# Altium footprint library BGA (1mm Pitch, Square2).PcbLib: 35 footprints (part 1 of 6)
Each footprint in its own frame and in the unit in brackets; x right, y up, seen from the top. Pads: shape width x height; smd on the part's side, far side on the other; paste and mask are expansions set on the pad; w line width, h text height; cw(c..) or ccw(c..) is an arc to the next point about the centre after c.
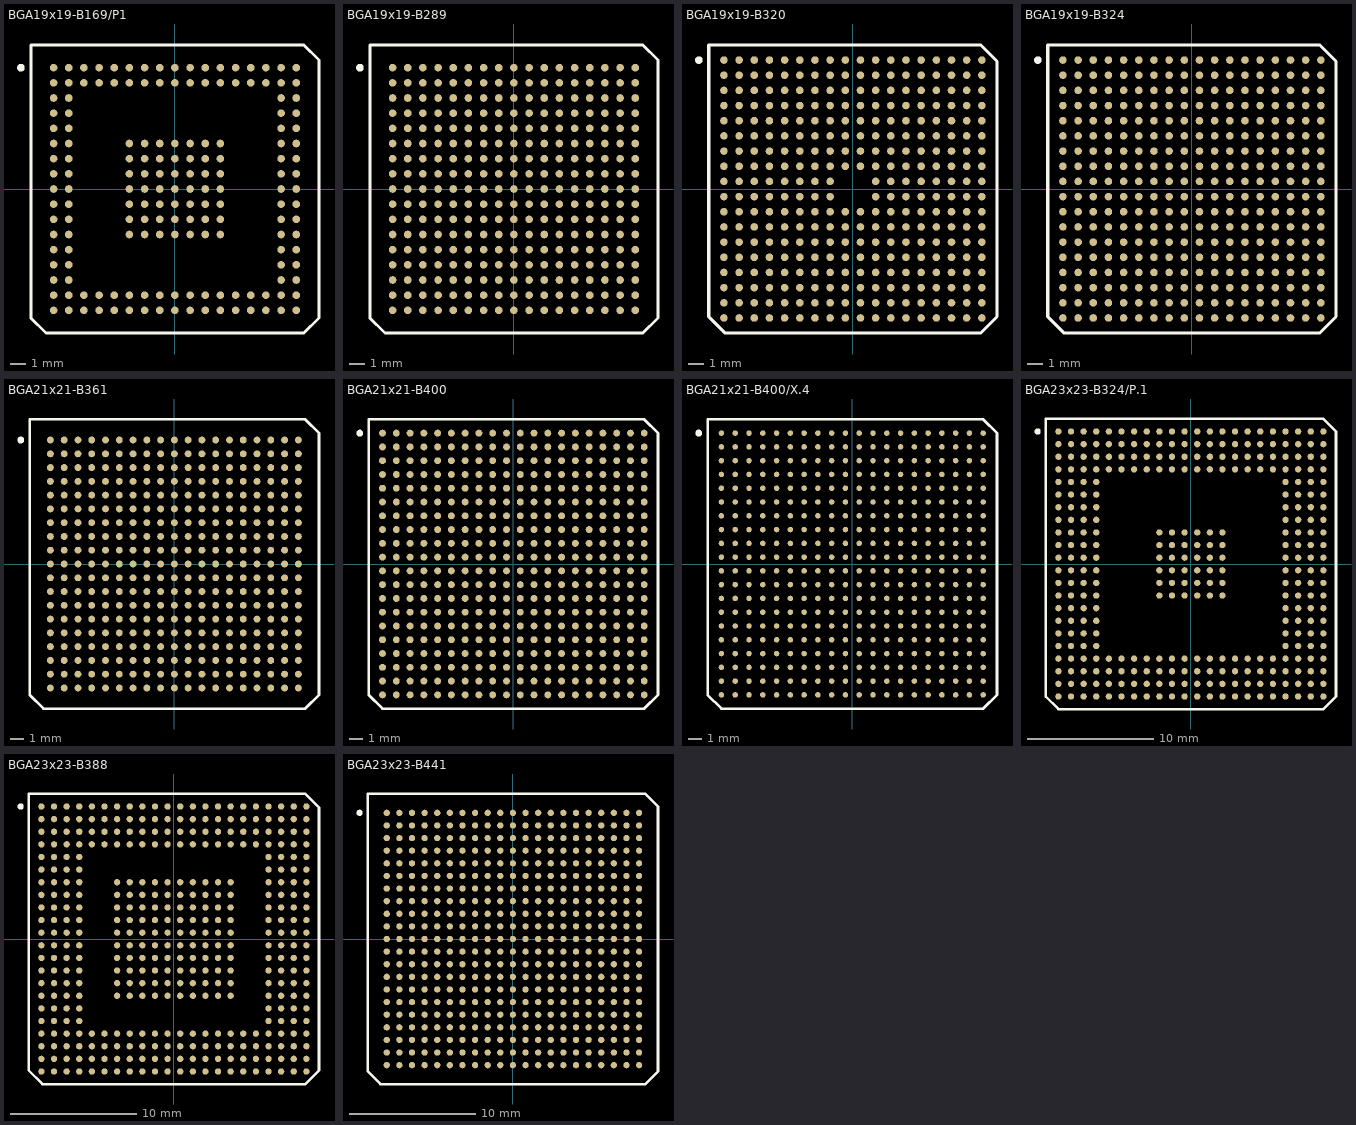
[diagram p0: the footprints below, top view; thin cyan lines are the x and y axes]

## BGA19x19-B169/P1 [mm] "BGA, Mini Plastic; 169 Balls; Body 19 x 19 mm; Pitch 1 mm"
height 2.5
pads (169):
  round 0.5 smd: A1(-8,8) A2(-7,8) A3(-6,8) A4(-5,8) A5(-4,8) A6(-3,8) A7(-2,8) A8(-1,8) A9(0,8) A10(1,8) A11(2,8) A12(3,8) A13(4,8) A14(5,8) A15(6,8) A16(7,8) A17(8,8) B1(-8,7) B2(-7,7) B3(-6,7) B4(-5,7) B5(-4,7) B6(-3,7) B7(-2,7) B8(-1,7) B9(0,7) B10(1,7) B11(2,7) B12(3,7) B13(4,7) B14(5,7) B15(6,7) B16(7,7) B17(8,7) C1(-8,6) C2(-7,6) C16(7,6) C17(8,6) D1(-8,5) D2(-7,5) D16(7,5) D17(8,5) E1(-8,4) E2(-7,4) E16(7,4) E17(8,4) F1(-8,3) F2(-7,3) F6(-3,3) F7(-2,3) F8(-1,3) F9(0,3) F10(1,3) F11(2,3) F12(3,3) F16(7,3) F17(8,3) G1(-8,2) G2(-7,2) G6(-3,2) G7(-2,2) G8(-1,2) G9(0,2) G10(1,2) G11(2,2) G12(3,2) G16(7,2) G17(8,2) H1(-8,1) H2(-7,1) H6(-3,1) H7(-2,1) H8(-1,1) H9(0,1) H10(1,1) H11(2,1) H12(3,1) H16(7,1) H17(8,1) J1(-8,0) J2(-7,0) J6(-3,0) J7(-2,0) J8(-1,0) J9(0,0) J10(1,0) J11(2,0) J12(3,0) J16(7,0) J17(8,0) K1(-8,-1) K2(-7,-1) K6(-3,-1) K7(-2,-1) K8(-1,-1) K9(0,-1) K10(1,-1) K11(2,-1) K12(3,-1) K16(7,-1) K17(8,-1) L1(-8,-2) L2(-7,-2) L6(-3,-2) L7(-2,-2) L8(-1,-2) L9(0,-2) L10(1,-2) L11(2,-2) L12(3,-2) L16(7,-2) L17(8,-2) M1(-8,-3) M2(-7,-3) M6(-3,-3) M7(-2,-3) M8(-1,-3) M9(0,-3) M10(1,-3) M11(2,-3) M12(3,-3) M16(7,-3) M17(8,-3) N1(-8,-4) N2(-7,-4) N16(7,-4) N17(8,-4) P1(-8,-5) P2(-7,-5) P16(7,-5) P17(8,-5) R1(-8,-6) R2(-7,-6) R16(7,-6) R17(8,-6) T1(-8,-7) T2(-7,-7) T3(-6,-7) T4(-5,-7) T5(-4,-7) T6(-3,-7) T7(-2,-7) T8(-1,-7) T9(0,-7) T10(1,-7) T11(2,-7) T12(3,-7) T13(4,-7) T14(5,-7) T15(6,-7) T16(7,-7) T17(8,-7) U1(-8,-8) U2(-7,-8) U3(-6,-8) U4(-5,-8) U5(-4,-8) U6(-3,-8) U7(-2,-8) U8(-1,-8) U9(0,-8) U10(1,-8) U11(2,-8) U12(3,-8) U13(4,-8) U14(5,-8) U15(6,-8) U16(7,-8) U17(8,-8)
Top Overlay:
  circle w0.25: c-10.155,8 r0.125
  lines w0.2: -9.5,-8.5 -8.5,-9.5 8.5,-9.5 9.5,-8.5 9.5,8.5 8.5,9.5 -9.5,9.5 -9.5,-8.5

## BGA19x19-B289 [mm] "BGA; 289 Balls; Body 19 x 19 mm; Pitch 1 mm"
height 3.5
pads (289):
  round 0.5 smd: A1(-8,8) A2(-7,8) A3(-6,8) A4(-5,8) A5(-4,8) A6(-3,8) A7(-2,8) A8(-1,8) A9(0,8) A10(1,8) A11(2,8) A12(3,8) A13(4,8) A14(5,8) A15(6,8) A16(7,8) A17(8,8) B1(-8,7) B2(-7,7) B3(-6,7) B4(-5,7) B5(-4,7) B6(-3,7) B7(-2,7) B8(-1,7) B9(0,7) B10(1,7) B11(2,7) B12(3,7) B13(4,7) B14(5,7) B15(6,7) B16(7,7) B17(8,7) C1(-8,6) C2(-7,6) C3(-6,6) C4(-5,6) C5(-4,6) C6(-3,6) C7(-2,6) C8(-1,6) C9(0,6) C10(1,6) C11(2,6) C12(3,6) C13(4,6) C14(5,6) C15(6,6) C16(7,6) C17(8,6) D1(-8,5) D2(-7,5) D3(-6,5) D4(-5,5) D5(-4,5) D6(-3,5) D7(-2,5) D8(-1,5) D9(0,5) D10(1,5) D11(2,5) D12(3,5) D13(4,5) D14(5,5) D15(6,5) D16(7,5) D17(8,5) E1(-8,4) E2(-7,4) E3(-6,4) E4(-5,4) E5(-4,4) E6(-3,4) E7(-2,4) E8(-1,4) E9(0,4) E10(1,4) E11(2,4) E12(3,4) E13(4,4) E14(5,4) E15(6,4) E16(7,4) E17(8,4) F1(-8,3) F2(-7,3) F3(-6,3) F4(-5,3) F5(-4,3) F6(-3,3) F7(-2,3) F8(-1,3) F9(0,3) F10(1,3) F11(2,3) F12(3,3) F13(4,3) F14(5,3) F15(6,3) F16(7,3) F17(8,3) G1(-8,2) G2(-7,2) G3(-6,2) G4(-5,2) G5(-4,2) G6(-3,2) G7(-2,2) G8(-1,2) G9(0,2) G10(1,2) G11(2,2) G12(3,2) G13(4,2) G14(5,2) G15(6,2) G16(7,2) G17(8,2) H1(-8,1) H2(-7,1) H3(-6,1) H4(-5,1) H5(-4,1) H6(-3,1) H7(-2,1) H8(-1,1) H9(0,1) H10(1,1) H11(2,1) H12(3,1) H13(4,1) H14(5,1) H15(6,1) H16(7,1) H17(8,1) J1(-8,0) J2(-7,0) J3(-6,0) J4(-5,0) J5(-4,0) J6(-3,0) J7(-2,0) J8(-1,0) J9(0,0) J10(1,0) J11(2,0) J12(3,0) J13(4,0) J14(5,0) J15(6,0) J16(7,0) J17(8,0) K1(-8,-1) K2(-7,-1) K3(-6,-1) K4(-5,-1) K5(-4,-1) K6(-3,-1) K7(-2,-1) K8(-1,-1) K9(0,-1) K10(1,-1) K11(2,-1) K12(3,-1) K13(4,-1) K14(5,-1) K15(6,-1) K16(7,-1) K17(8,-1) L1(-8,-2) L2(-7,-2) L3(-6,-2) L4(-5,-2) L5(-4,-2) L6(-3,-2) L7(-2,-2) L8(-1,-2) L9(0,-2) L10(1,-2) L11(2,-2) L12(3,-2) L13(4,-2) L14(5,-2) L15(6,-2) L16(7,-2) L17(8,-2) M1(-8,-3) M2(-7,-3) M3(-6,-3) M4(-5,-3) M5(-4,-3) M6(-3,-3) M7(-2,-3) M8(-1,-3) M9(0,-3) M10(1,-3) M11(2,-3) M12(3,-3) M13(4,-3) M14(5,-3) M15(6,-3) M16(7,-3) M17(8,-3) N1(-8,-4) N2(-7,-4) N3(-6,-4) N4(-5,-4) N5(-4,-4) N6(-3,-4) N7(-2,-4) N8(-1,-4) N9(0,-4) N10(1,-4) N11(2,-4) N12(3,-4) N13(4,-4) N14(5,-4) N15(6,-4) N16(7,-4) N17(8,-4) P1(-8,-5) P2(-7,-5) P3(-6,-5) P4(-5,-5) P5(-4,-5) P6(-3,-5) P7(-2,-5) P8(-1,-5) P9(0,-5) P10(1,-5) P11(2,-5) P12(3,-5) P13(4,-5) P14(5,-5) P15(6,-5) P16(7,-5) P17(8,-5) R1(-8,-6) R2(-7,-6) R3(-6,-6) R4(-5,-6) R5(-4,-6) R6(-3,-6) R7(-2,-6) R8(-1,-6) R9(0,-6) R10(1,-6) R11(2,-6) R12(3,-6) R13(4,-6) R14(5,-6) R15(6,-6) R16(7,-6) R17(8,-6) T1(-8,-7) T2(-7,-7) T3(-6,-7) T4(-5,-7) T5(-4,-7) T6(-3,-7) T7(-2,-7) T8(-1,-7) T9(0,-7) T10(1,-7) T11(2,-7) T12(3,-7) T13(4,-7) T14(5,-7) T15(6,-7) T16(7,-7) T17(8,-7) U1(-8,-8) U2(-7,-8) U3(-6,-8) U4(-5,-8) U5(-4,-8) U6(-3,-8) U7(-2,-8) U8(-1,-8) U9(0,-8) U10(1,-8) U11(2,-8) U12(3,-8) U13(4,-8) U14(5,-8) U15(6,-8) U16(7,-8) U17(8,-8)
Top Overlay:
  circle w0.25: c-10.155,8 r0.125
  lines w0.2: -9.5,-8.5 -9.5,9.5 8.5,9.5 9.5,8.5 9.5,-8.5 8.5,-9.5 -8.5,-9.5 -9.5,-8.5

## BGA19x19-B320 [mm] "320-Ball Fine-Pitch Ball Grid Array (FG320)"
height 2
pads (320):
  round 0.5 smd: A1(-8.5,8.5) A2(-7.5,8.5) A3(-6.5,8.5) A4(-5.5,8.5) A5(-4.5,8.5) A6(-3.5,8.5) A7(-2.5,8.5) A8(-1.5,8.5) A9(-0.5,8.5) A10(0.5,8.5) A11(1.5,8.5) A12(2.5,8.5) A13(3.5,8.5) A14(4.5,8.5) A15(5.5,8.5) A16(6.5,8.5) A17(7.5,8.5) A18(8.5,8.5) B1(-8.5,7.5) B2(-7.5,7.5) B3(-6.5,7.5) B4(-5.5,7.5) B5(-4.5,7.5) B6(-3.5,7.5) B7(-2.5,7.5) B8(-1.5,7.5) B9(-0.5,7.5) B10(0.5,7.5) B11(1.5,7.5) B12(2.5,7.5) B13(3.5,7.5) B14(4.5,7.5) B15(5.5,7.5) B16(6.5,7.5) B17(7.5,7.5) B18(8.5,7.5) C1(-8.5,6.5) C2(-7.5,6.5) C3(-6.5,6.5) C4(-5.5,6.5) C5(-4.5,6.5) C6(-3.5,6.5) C7(-2.5,6.5) C8(-1.5,6.5) C9(-0.5,6.5) C10(0.5,6.5) C11(1.5,6.5) C12(2.5,6.5) C13(3.5,6.5) C14(4.5,6.5) C15(5.5,6.5) C16(6.5,6.5) C17(7.5,6.5) C18(8.5,6.5) D1(-8.5,5.5) D2(-7.5,5.5) D3(-6.5,5.5) D4(-5.5,5.5) D5(-4.5,5.5) D6(-3.5,5.5) D7(-2.5,5.5) D8(-1.5,5.5) D9(-0.5,5.5) D10(0.5,5.5) D11(1.5,5.5) D12(2.5,5.5) D13(3.5,5.5) D14(4.5,5.5) D15(5.5,5.5) D16(6.5,5.5) D17(7.5,5.5) D18(8.5,5.5) E1(-8.5,4.5) E2(-7.5,4.5) E3(-6.5,4.5) E4(-5.5,4.5) E5(-4.5,4.5) E6(-3.5,4.5) E7(-2.5,4.5) E8(-1.5,4.5) E9(-0.5,4.5) E10(0.5,4.5) E11(1.5,4.5) E12(2.5,4.5) E13(3.5,4.5) E14(4.5,4.5) E15(5.5,4.5) E16(6.5,4.5) E17(7.5,4.5) E18(8.5,4.5) F1(-8.5,3.5) F2(-7.5,3.5) F3(-6.5,3.5) F4(-5.5,3.5) F5(-4.5,3.5) F6(-3.5,3.5) F7(-2.5,3.5) F8(-1.5,3.5) F9(-0.5,3.5) F10(0.5,3.5) F11(1.5,3.5) F12(2.5,3.5) F13(3.5,3.5) F14(4.5,3.5) F15(5.5,3.5) F16(6.5,3.5) F17(7.5,3.5) F18(8.5,3.5) G1(-8.5,2.5) G2(-7.5,2.5) G3(-6.5,2.5) G4(-5.5,2.5) G5(-4.5,2.5) G6(-3.5,2.5) G7(-2.5,2.5) G8(-1.5,2.5) G9(-0.5,2.5) G10(0.5,2.5) G11(1.5,2.5) G12(2.5,2.5) G13(3.5,2.5) G14(4.5,2.5) G15(5.5,2.5) G16(6.5,2.5) G17(7.5,2.5) G18(8.5,2.5) H1(-8.5,1.5) H2(-7.5,1.5) H3(-6.5,1.5) H4(-5.5,1.5) H5(-4.5,1.5) H6(-3.5,1.5) H7(-2.5,1.5) H8(-1.5,1.5) H9(-0.5,1.5) H10(0.5,1.5) H11(1.5,1.5) H12(2.5,1.5) H13(3.5,1.5) H14(4.5,1.5) H15(5.5,1.5) H16(6.5,1.5) H17(7.5,1.5) H18(8.5,1.5) J1(-8.5,0.5) J2(-7.5,0.5) J3(-6.5,0.5) J4(-5.5,0.5) J5(-4.5,0.5) J6(-3.5,0.5) J7(-2.5,0.5) J8(-1.5,0.5) J11(1.5,0.5) J12(2.5,0.5) J13(3.5,0.5) J14(4.5,0.5) J15(5.5,0.5) J16(6.5,0.5) J17(7.5,0.5) J18(8.5,0.5) K1(-8.5,-0.5) K2(-7.5,-0.5) K3(-6.5,-0.5) K4(-5.5,-0.5) K5(-4.5,-0.5) K6(-3.5,-0.5) K7(-2.5,-0.5) K8(-1.5,-0.5) K11(1.5,-0.5) K12(2.5,-0.5) K13(3.5,-0.5) K14(4.5,-0.5) K15(5.5,-0.5) K16(6.5,-0.5) K17(7.5,-0.5) K18(8.5,-0.5) L1(-8.5,-1.5) L2(-7.5,-1.5) L3(-6.5,-1.5) L4(-5.5,-1.5) L5(-4.5,-1.5) L6(-3.5,-1.5) L7(-2.5,-1.5) L8(-1.5,-1.5) L9(-0.5,-1.5) L10(0.5,-1.5) L11(1.5,-1.5) L12(2.5,-1.5) L13(3.5,-1.5) L14(4.5,-1.5) L15(5.5,-1.5) L16(6.5,-1.5) L17(7.5,-1.5) L18(8.5,-1.5) M1(-8.5,-2.5) M2(-7.5,-2.5) M3(-6.5,-2.5) M4(-5.5,-2.5) M5(-4.5,-2.5) M6(-3.5,-2.5) M7(-2.5,-2.5) M8(-1.5,-2.5) M9(-0.5,-2.5) M10(0.5,-2.5) M11(1.5,-2.5) M12(2.5,-2.5) M13(3.5,-2.5) M14(4.5,-2.5) M15(5.5,-2.5) M16(6.5,-2.5) M17(7.5,-2.5) M18(8.5,-2.5) N1(-8.5,-3.5) N2(-7.5,-3.5) N3(-6.5,-3.5) N4(-5.5,-3.5) N5(-4.5,-3.5) N6(-3.5,-3.5) N7(-2.5,-3.5) N8(-1.5,-3.5) N9(-0.5,-3.5) N10(0.5,-3.5) N11(1.5,-3.5) N12(2.5,-3.5) N13(3.5,-3.5) N14(4.5,-3.5) N15(5.5,-3.5) N16(6.5,-3.5) N17(7.5,-3.5) N18(8.5,-3.5) P1(-8.5,-4.5) P2(-7.5,-4.5) P3(-6.5,-4.5) P4(-5.5,-4.5) P5(-4.5,-4.5) P6(-3.5,-4.5) P7(-2.5,-4.5) P8(-1.5,-4.5) P9(-0.5,-4.5) P10(0.5,-4.5) P11(1.5,-4.5) P12(2.5,-4.5) P13(3.5,-4.5) P14(4.5,-4.5) P15(5.5,-4.5) P16(6.5,-4.5) P17(7.5,-4.5) P18(8.5,-4.5) R1(-8.5,-5.5) R2(-7.5,-5.5) R3(-6.5,-5.5) R4(-5.5,-5.5) R5(-4.5,-5.5) R6(-3.5,-5.5) R7(-2.5,-5.5) R8(-1.5,-5.5) R9(-0.5,-5.5) R10(0.5,-5.5) R11(1.5,-5.5) R12(2.5,-5.5) R13(3.5,-5.5) R14(4.5,-5.5) R15(5.5,-5.5) R16(6.5,-5.5) R17(7.5,-5.5) R18(8.5,-5.5) T1(-8.5,-6.5) T2(-7.5,-6.5) T3(-6.5,-6.5) T4(-5.5,-6.5) T5(-4.5,-6.5) T6(-3.5,-6.5) T7(-2.5,-6.5) T8(-1.5,-6.5) T9(-0.5,-6.5) T10(0.5,-6.5) T11(1.5,-6.5) T12(2.5,-6.5) T13(3.5,-6.5) T14(4.5,-6.5) T15(5.5,-6.5) T16(6.5,-6.5) T17(7.5,-6.5) T18(8.5,-6.5) U1(-8.5,-7.5) U2(-7.5,-7.5) U3(-6.5,-7.5) U4(-5.5,-7.5) U5(-4.5,-7.5) U6(-3.5,-7.5) U7(-2.5,-7.5) U8(-1.5,-7.5) U9(-0.5,-7.5) U10(0.5,-7.5) U11(1.5,-7.5) U12(2.5,-7.5) U13(3.5,-7.5) U14(4.5,-7.5) U15(5.5,-7.5) U16(6.5,-7.5) U17(7.5,-7.5) U18(8.5,-7.5) V1(-8.5,-8.5) V2(-7.5,-8.5) V3(-6.5,-8.5) V4(-5.5,-8.5) V5(-4.5,-8.5) V6(-3.5,-8.5) V7(-2.5,-8.5) V8(-1.5,-8.5) V9(-0.5,-8.5) V10(0.5,-8.5) V11(1.5,-8.5) V12(2.5,-8.5) V13(3.5,-8.5) V14(4.5,-8.5) V15(5.5,-8.5) V16(6.5,-8.5) V17(7.5,-8.5) V18(8.5,-8.5)
Top Overlay:
  circle w0.25: c-10.15,8.5 r0.125
  lines w0.2: -9.5,-8.419 -8.419,-9.5 8.419,-9.5 9.5,-8.419 9.5,8.419 8.419,9.5 -9.5,9.5 -9.5,-8.419

## BGA19x19-B324 [mm] "324-Pin Fine Pitch Plastic Ball Grid Array (FG)"
height 1.78
pads (324):
  round 0.5 smd: A1(-8.5,8.5) A2(-7.5,8.5) A3(-6.5,8.5) A4(-5.5,8.5) A5(-4.5,8.5) A6(-3.5,8.5) A7(-2.5,8.5) A8(-1.5,8.5) A9(-0.5,8.5) A10(0.5,8.5) A11(1.5,8.5) A12(2.5,8.5) A13(3.5,8.5) A14(4.5,8.5) A15(5.5,8.5) A16(6.5,8.5) A17(7.5,8.5) A18(8.5,8.5) B1(-8.5,7.5) B2(-7.5,7.5) B3(-6.5,7.5) B4(-5.5,7.5) B5(-4.5,7.5) B6(-3.5,7.5) B7(-2.5,7.5) B8(-1.5,7.5) B9(-0.5,7.5) B10(0.5,7.5) B11(1.5,7.5) B12(2.5,7.5) B13(3.5,7.5) B14(4.5,7.5) B15(5.5,7.5) B16(6.5,7.5) B17(7.5,7.5) B18(8.5,7.5) C1(-8.5,6.5) C2(-7.5,6.5) C3(-6.5,6.5) C4(-5.5,6.5) C5(-4.5,6.5) C6(-3.5,6.5) C7(-2.5,6.5) C8(-1.5,6.5) C9(-0.5,6.5) C10(0.5,6.5) C11(1.5,6.5) C12(2.5,6.5) C13(3.5,6.5) C14(4.5,6.5) C15(5.5,6.5) C16(6.5,6.5) C17(7.5,6.5) C18(8.5,6.5) D1(-8.5,5.5) D2(-7.5,5.5) D3(-6.5,5.5) D4(-5.5,5.5) D5(-4.5,5.5) D6(-3.5,5.5) D7(-2.5,5.5) D8(-1.5,5.5) D9(-0.5,5.5) D10(0.5,5.5) D11(1.5,5.5) D12(2.5,5.5) D13(3.5,5.5) D14(4.5,5.5) D15(5.5,5.5) D16(6.5,5.5) D17(7.5,5.5) D18(8.5,5.5) E1(-8.5,4.5) E2(-7.5,4.5) E3(-6.5,4.5) E4(-5.5,4.5) E5(-4.5,4.5) E6(-3.5,4.5) E7(-2.5,4.5) E8(-1.5,4.5) E9(-0.5,4.5) E10(0.5,4.5) E11(1.5,4.5) E12(2.5,4.5) E13(3.5,4.5) E14(4.5,4.5) E15(5.5,4.5) E16(6.5,4.5) E17(7.5,4.5) E18(8.5,4.5) F1(-8.5,3.5) F2(-7.5,3.5) F3(-6.5,3.5) F4(-5.5,3.5) F5(-4.5,3.5) F6(-3.5,3.5) F7(-2.5,3.5) F8(-1.5,3.5) F9(-0.5,3.5) F10(0.5,3.5) F11(1.5,3.5) F12(2.5,3.5) F13(3.5,3.5) F14(4.5,3.5) F15(5.5,3.5) F16(6.5,3.5) F17(7.5,3.5) F18(8.5,3.5) G1(-8.5,2.5) G2(-7.5,2.5) G3(-6.5,2.5) G4(-5.5,2.5) G5(-4.5,2.5) G6(-3.5,2.5) G7(-2.5,2.5) G8(-1.5,2.5) G9(-0.5,2.5) G10(0.5,2.5) G11(1.5,2.5) G12(2.5,2.5) G13(3.5,2.5) G14(4.5,2.5) G15(5.5,2.5) G16(6.5,2.5) G17(7.5,2.5) G18(8.5,2.5) H1(-8.5,1.5) H2(-7.5,1.5) H3(-6.5,1.5) H4(-5.5,1.5) H5(-4.5,1.5) H6(-3.5,1.5) H7(-2.5,1.5) H8(-1.5,1.5) H9(-0.5,1.5) H10(0.5,1.5) H11(1.5,1.5) H12(2.5,1.5) H13(3.5,1.5) H14(4.5,1.5) H15(5.5,1.5) H16(6.5,1.5) H17(7.5,1.5) H18(8.5,1.5) J1(-8.5,0.5) J2(-7.5,0.5) J3(-6.5,0.5) J4(-5.5,0.5) J5(-4.5,0.5) J6(-3.5,0.5) J7(-2.5,0.5) J8(-1.5,0.5) J9(-0.5,0.5) J10(0.5,0.5) J11(1.5,0.5) J12(2.5,0.5) J13(3.5,0.5) J14(4.5,0.5) J15(5.5,0.5) J16(6.5,0.5) J17(7.5,0.5) J18(8.5,0.5) K1(-8.5,-0.5) K2(-7.5,-0.5) K3(-6.5,-0.5) K4(-5.5,-0.5) K5(-4.5,-0.5) K6(-3.5,-0.5) K7(-2.5,-0.5) K8(-1.5,-0.5) K9(-0.5,-0.5) K10(0.5,-0.5) K11(1.5,-0.5) K12(2.5,-0.5) K13(3.5,-0.5) K14(4.5,-0.5) K15(5.5,-0.5) K16(6.5,-0.5) K17(7.5,-0.5) K18(8.5,-0.5) L1(-8.5,-1.5) L2(-7.5,-1.5) L3(-6.5,-1.5) L4(-5.5,-1.5) L5(-4.5,-1.5) L6(-3.5,-1.5) L7(-2.5,-1.5) L8(-1.5,-1.5) L9(-0.5,-1.5) L10(0.5,-1.5) L11(1.5,-1.5) L12(2.5,-1.5) L13(3.5,-1.5) L14(4.5,-1.5) L15(5.5,-1.5) L16(6.5,-1.5) L17(7.5,-1.5) L18(8.5,-1.5) M1(-8.5,-2.5) M2(-7.5,-2.5) M3(-6.5,-2.5) M4(-5.5,-2.5) M5(-4.5,-2.5) M6(-3.5,-2.5) M7(-2.5,-2.5) M8(-1.5,-2.5) M9(-0.5,-2.5) M10(0.5,-2.5) M11(1.5,-2.5) M12(2.5,-2.5) M13(3.5,-2.5) M14(4.5,-2.5) M15(5.5,-2.5) M16(6.5,-2.5) M17(7.5,-2.5) M18(8.5,-2.5) N1(-8.5,-3.5) N2(-7.5,-3.5) N3(-6.5,-3.5) N4(-5.5,-3.5) N5(-4.5,-3.5) N6(-3.5,-3.5) N7(-2.5,-3.5) N8(-1.5,-3.5) N9(-0.5,-3.5) N10(0.5,-3.5) N11(1.5,-3.5) N12(2.5,-3.5) N13(3.5,-3.5) N14(4.5,-3.5) N15(5.5,-3.5) N16(6.5,-3.5) N17(7.5,-3.5) N18(8.5,-3.5) P1(-8.5,-4.5) P2(-7.5,-4.5) P3(-6.5,-4.5) P4(-5.5,-4.5) P5(-4.5,-4.5) P6(-3.5,-4.5) P7(-2.5,-4.5) P8(-1.5,-4.5) P9(-0.5,-4.5) P10(0.5,-4.5) P11(1.5,-4.5) P12(2.5,-4.5) P13(3.5,-4.5) P14(4.5,-4.5) P15(5.5,-4.5) P16(6.5,-4.5) P17(7.5,-4.5) P18(8.5,-4.5) R1(-8.5,-5.5) R2(-7.5,-5.5) R3(-6.5,-5.5) R4(-5.5,-5.5) R5(-4.5,-5.5) R6(-3.5,-5.5) R7(-2.5,-5.5) R8(-1.5,-5.5) R9(-0.5,-5.5) R10(0.5,-5.5) R11(1.5,-5.5) R12(2.5,-5.5) R13(3.5,-5.5) R14(4.5,-5.5) R15(5.5,-5.5) R16(6.5,-5.5) R17(7.5,-5.5) R18(8.5,-5.5) T1(-8.5,-6.5) T2(-7.5,-6.5) T3(-6.5,-6.5) T4(-5.5,-6.5) T5(-4.5,-6.5) T6(-3.5,-6.5) T7(-2.5,-6.5) T8(-1.5,-6.5) T9(-0.5,-6.5) T10(0.5,-6.5) T11(1.5,-6.5) T12(2.5,-6.5) T13(3.5,-6.5) T14(4.5,-6.5) T15(5.5,-6.5) T16(6.5,-6.5) T17(7.5,-6.5) T18(8.5,-6.5) U1(-8.5,-7.5) U2(-7.5,-7.5) U3(-6.5,-7.5) U4(-5.5,-7.5) U5(-4.5,-7.5) U6(-3.5,-7.5) U7(-2.5,-7.5) U8(-1.5,-7.5) U9(-0.5,-7.5) U10(0.5,-7.5) U11(1.5,-7.5) U12(2.5,-7.5) U13(3.5,-7.5) U14(4.5,-7.5) U15(5.5,-7.5) U16(6.5,-7.5) U17(7.5,-7.5) U18(8.5,-7.5) V1(-8.5,-8.5) V2(-7.5,-8.5) V3(-6.5,-8.5) V4(-5.5,-8.5) V5(-4.5,-8.5) V6(-3.5,-8.5) V7(-2.5,-8.5) V8(-1.5,-8.5) V9(-0.5,-8.5) V10(0.5,-8.5) V11(1.5,-8.5) V12(2.5,-8.5) V13(3.5,-8.5) V14(4.5,-8.5) V15(5.5,-8.5) V16(6.5,-8.5) V17(7.5,-8.5) V18(8.5,-8.5)
Top Overlay:
  circle w0.25: c-10.15,8.5 r0.125
  lines w0.2: -9.5,-8.419 -8.419,-9.5 8.419,-9.5 9.5,-8.419 9.5,8.419 8.419,9.5 -9.5,9.5 -9.5,-8.419

## BGA21x21-B361 [mm] "BGA; 361 Balls; Body 21 x 21 mm; Pitch 1 mm"
height 3.5
pads (361):
  round 0.5 smd: A1(-9,9) A2(-8,9) A3(-7,9) A4(-6,9) A5(-5,9) A6(-4,9) A7(-3,9) A8(-2,9) A9(-1,9) A10(0,9) A11(1,9) A12(2,9) A13(3,9) A14(4,9) A15(5,9) A16(6,9) A17(7,9) A18(8,9) A19(9,9) B1(-9,8) B2(-8,8) B3(-7,8) B4(-6,8) B5(-5,8) B6(-4,8) B7(-3,8) B8(-2,8) B9(-1,8) B10(0,8) B11(1,8) B12(2,8) B13(3,8) B14(4,8) B15(5,8) B16(6,8) B17(7,8) B18(8,8) B19(9,8) C1(-9,7) C2(-8,7) C3(-7,7) C4(-6,7) C5(-5,7) C6(-4,7) C7(-3,7) C8(-2,7) C9(-1,7) C10(0,7) C11(1,7) C12(2,7) C13(3,7) C14(4,7) C15(5,7) C16(6,7) C17(7,7) C18(8,7) C19(9,7) D1(-9,6) D2(-8,6) D3(-7,6) D4(-6,6) D5(-5,6) D6(-4,6) D7(-3,6) D8(-2,6) D9(-1,6) D10(0,6) D11(1,6) D12(2,6) D13(3,6) D14(4,6) D15(5,6) D16(6,6) D17(7,6) D18(8,6) D19(9,6) E1(-9,5) E2(-8,5) E3(-7,5) E4(-6,5) E5(-5,5) E6(-4,5) E7(-3,5) E8(-2,5) E9(-1,5) E10(0,5) E11(1,5) E12(2,5) E13(3,5) E14(4,5) E15(5,5) E16(6,5) E17(7,5) E18(8,5) E19(9,5) F1(-9,4) F2(-8,4) F3(-7,4) F4(-6,4) F5(-5,4) F6(-4,4) F7(-3,4) F8(-2,4) F9(-1,4) F10(0,4) F11(1,4) F12(2,4) F13(3,4) F14(4,4) F15(5,4) F16(6,4) F17(7,4) F18(8,4) F19(9,4) G1(-9,3) G2(-8,3) G3(-7,3) G4(-6,3) G5(-5,3) G6(-4,3) G7(-3,3) G8(-2,3) G9(-1,3) G10(0,3) G11(1,3) G12(2,3) G13(3,3) G14(4,3) G15(5,3) G16(6,3) G17(7,3) G18(8,3) G19(9,3) H1(-9,2) H2(-8,2) H3(-7,2) H4(-6,2) H5(-5,2) H6(-4,2) H7(-3,2) H8(-2,2) H9(-1,2) H10(0,2) H11(1,2) H12(2,2) H13(3,2) H14(4,2) H15(5,2) H16(6,2) H17(7,2) H18(8,2) H19(9,2) J1(-9,1) J2(-8,1) J3(-7,1) J4(-6,1) J5(-5,1) J6(-4,1) J7(-3,1) J8(-2,1) J9(-1,1) J10(0,1) J11(1,1) J12(2,1) J13(3,1) J14(4,1) J15(5,1) J16(6,1) J17(7,1) J18(8,1) J19(9,1) K1(-9,0) K2(-8,0) K3(-7,0) K4(-6,0) K5(-5,0) K6(-4,0) K7(-3,0) K8(-2,0) K9(-1,0) K10(0,0) K11(1,0) K12(2,0) K13(3,0) K14(4,0) K15(5,0) K16(6,0) K17(7,0) K18(8,0) K19(9,0) L1(-9,-1) L2(-8,-1) L3(-7,-1) L4(-6,-1) L5(-5,-1) L6(-4,-1) L7(-3,-1) L8(-2,-1) L9(-1,-1) L10(0,-1) L11(1,-1) L12(2,-1) L13(3,-1) L14(4,-1) L15(5,-1) L16(6,-1) L17(7,-1) L18(8,-1) L19(9,-1) M1(-9,-2) M2(-8,-2) M3(-7,-2) M4(-6,-2) M5(-5,-2) M6(-4,-2) M7(-3,-2) M8(-2,-2) M9(-1,-2) M10(0,-2) M11(1,-2) M12(2,-2) M13(3,-2) M14(4,-2) M15(5,-2) M16(6,-2) M17(7,-2) M18(8,-2) M19(9,-2) N1(-9,-3) N2(-8,-3) N3(-7,-3) N4(-6,-3) N5(-5,-3) N6(-4,-3) N7(-3,-3) N8(-2,-3) N9(-1,-3) N10(0,-3) N11(1,-3) N12(2,-3) N13(3,-3) N14(4,-3) N15(5,-3) N16(6,-3) N17(7,-3) N18(8,-3) N19(9,-3) P1(-9,-4) P2(-8,-4) P3(-7,-4) P4(-6,-4) P5(-5,-4) P6(-4,-4) P7(-3,-4) P8(-2,-4) P9(-1,-4) P10(0,-4) P11(1,-4) P12(2,-4) P13(3,-4) P14(4,-4) P15(5,-4) P16(6,-4) P17(7,-4) P18(8,-4) P19(9,-4) R1(-9,-5) R2(-8,-5) R3(-7,-5) R4(-6,-5) R5(-5,-5) R6(-4,-5) R7(-3,-5) R8(-2,-5) R9(-1,-5) R10(0,-5) R11(1,-5) R12(2,-5) R13(3,-5) R14(4,-5) R15(5,-5) R16(6,-5) R17(7,-5) R18(8,-5) R19(9,-5) T1(-9,-6) T2(-8,-6) T3(-7,-6) T4(-6,-6) T5(-5,-6) T6(-4,-6) T7(-3,-6) T8(-2,-6) T9(-1,-6) T10(0,-6) T11(1,-6) T12(2,-6) T13(3,-6) T14(4,-6) T15(5,-6) T16(6,-6) T17(7,-6) T18(8,-6) T19(9,-6) U1(-9,-7) U2(-8,-7) U3(-7,-7) U4(-6,-7) U5(-5,-7) U6(-4,-7) U7(-3,-7) U8(-2,-7) U9(-1,-7) U10(0,-7) U11(1,-7) U12(2,-7) U13(3,-7) U14(4,-7) U15(5,-7) U16(6,-7) U17(7,-7) U18(8,-7) U19(9,-7) V1(-9,-8) V2(-8,-8) V3(-7,-8) V4(-6,-8) V5(-5,-8) V6(-4,-8) V7(-3,-8) V8(-2,-8) V9(-1,-8) V10(0,-8) V11(1,-8) V12(2,-8) V13(3,-8) V14(4,-8) V15(5,-8) V16(6,-8) V17(7,-8) V18(8,-8) V19(9,-8) W1(-9,-9) W2(-8,-9) W3(-7,-9) W4(-6,-9) W5(-5,-9) W6(-4,-9) W7(-3,-9) W8(-2,-9) W9(-1,-9) W10(0,-9) W11(1,-9) W12(2,-9) W13(3,-9) W14(4,-9) W15(5,-9) W16(6,-9) W17(7,-9) W18(8,-9) W19(9,-9)
Top Overlay:
  circle w0.25: c-11.155,9 r0.125
  lines w0.2: -10.5,-9.5 -9.5,-10.5 9.5,-10.5 10.5,-9.5 10.5,9.5 9.5,10.5 -10.5,10.5 -10.5,-9.5

## BGA21x21-B400 [mm] "400-Pin Non-Thermally Enhanced FineLine Ball-Grid Array (FBGA)"
height 2.6
pads (400):
  round 0.5 smd: A1(-9.5,9.5) A2(-8.5,9.5) A3(-7.5,9.5) A4(-6.5,9.5) A5(-5.5,9.5) A6(-4.5,9.5) A7(-3.5,9.5) A8(-2.5,9.5) A9(-1.5,9.5) A10(-0.5,9.5) A11(0.5,9.5) A12(1.5,9.5) A13(2.5,9.5) A14(3.5,9.5) A15(4.5,9.5) A16(5.5,9.5) A17(6.5,9.5) A18(7.5,9.5) A19(8.5,9.5) A20(9.5,9.5) B1(-9.5,8.5) B2(-8.5,8.5) B3(-7.5,8.5) B4(-6.5,8.5) B5(-5.5,8.5) B6(-4.5,8.5) B7(-3.5,8.5) B8(-2.5,8.5) B9(-1.5,8.5) B10(-0.5,8.5) B11(0.5,8.5) B12(1.5,8.5) B13(2.5,8.5) B14(3.5,8.5) B15(4.5,8.5) B16(5.5,8.5) B17(6.5,8.5) B18(7.5,8.5) B19(8.5,8.5) B20(9.5,8.5) C1(-9.5,7.5) C2(-8.5,7.5) C3(-7.5,7.5) C4(-6.5,7.5) C5(-5.5,7.5) C6(-4.5,7.5) C7(-3.5,7.5) C8(-2.5,7.5) C9(-1.5,7.5) C10(-0.5,7.5) C11(0.5,7.5) C12(1.5,7.5) C13(2.5,7.5) C14(3.5,7.5) C15(4.5,7.5) C16(5.5,7.5) C17(6.5,7.5) C18(7.5,7.5) C19(8.5,7.5) C20(9.5,7.5) D1(-9.5,6.5) D2(-8.5,6.5) D3(-7.5,6.5) D4(-6.5,6.5) D5(-5.5,6.5) D6(-4.5,6.5) D7(-3.5,6.5) D8(-2.5,6.5) D9(-1.5,6.5) D10(-0.5,6.5) D11(0.5,6.5) D12(1.5,6.5) D13(2.5,6.5) D14(3.5,6.5) D15(4.5,6.5) D16(5.5,6.5) D17(6.5,6.5) D18(7.5,6.5) D19(8.5,6.5) D20(9.5,6.5) E1(-9.5,5.5) E2(-8.5,5.5) E3(-7.5,5.5) E4(-6.5,5.5) E5(-5.5,5.5) E6(-4.5,5.5) E7(-3.5,5.5) E8(-2.5,5.5) E9(-1.5,5.5) E10(-0.5,5.5) E11(0.5,5.5) E12(1.5,5.5) E13(2.5,5.5) E14(3.5,5.5) E15(4.5,5.5) E16(5.5,5.5) E17(6.5,5.5) E18(7.5,5.5) E19(8.5,5.5) E20(9.5,5.5) F1(-9.5,4.5) F2(-8.5,4.5) F3(-7.5,4.5) F4(-6.5,4.5) F5(-5.5,4.5) F6(-4.5,4.5) F7(-3.5,4.5) F8(-2.5,4.5) F9(-1.5,4.5) F10(-0.5,4.5) F11(0.5,4.5) F12(1.5,4.5) F13(2.5,4.5) F14(3.5,4.5) F15(4.5,4.5) F16(5.5,4.5) F17(6.5,4.5) F18(7.5,4.5) F19(8.5,4.5) F20(9.5,4.5) G1(-9.5,3.5) G2(-8.5,3.5) G3(-7.5,3.5) G4(-6.5,3.5) G5(-5.5,3.5) G6(-4.5,3.5) G7(-3.5,3.5) G8(-2.5,3.5) G9(-1.5,3.5) G10(-0.5,3.5) G11(0.5,3.5) G12(1.5,3.5) G13(2.5,3.5) G14(3.5,3.5) G15(4.5,3.5) G16(5.5,3.5) G17(6.5,3.5) G18(7.5,3.5) G19(8.5,3.5) G20(9.5,3.5) H1(-9.5,2.5) H2(-8.5,2.5) H3(-7.5,2.5) H4(-6.5,2.5) H5(-5.5,2.5) H6(-4.5,2.5) H7(-3.5,2.5) H8(-2.5,2.5) H9(-1.5,2.5) H10(-0.5,2.5) H11(0.5,2.5) H12(1.5,2.5) H13(2.5,2.5) H14(3.5,2.5) H15(4.5,2.5) H16(5.5,2.5) H17(6.5,2.5) H18(7.5,2.5) H19(8.5,2.5) H20(9.5,2.5) J1(-9.5,1.5) J2(-8.5,1.5) J3(-7.5,1.5) J4(-6.5,1.5) J5(-5.5,1.5) J6(-4.5,1.5) J7(-3.5,1.5) J8(-2.5,1.5) J9(-1.5,1.5) J10(-0.5,1.5) J11(0.5,1.5) J12(1.5,1.5) J13(2.5,1.5) J14(3.5,1.5) J15(4.5,1.5) J16(5.5,1.5) J17(6.5,1.5) J18(7.5,1.5) J19(8.5,1.5) J20(9.5,1.5) K1(-9.5,0.5) K2(-8.5,0.5) K3(-7.5,0.5) K4(-6.5,0.5) K5(-5.5,0.5) K6(-4.5,0.5) K7(-3.5,0.5) K8(-2.5,0.5) K9(-1.5,0.5) K10(-0.5,0.5) K11(0.5,0.5) K12(1.5,0.5) K13(2.5,0.5) K14(3.5,0.5) K15(4.5,0.5) K16(5.5,0.5) K17(6.5,0.5) K18(7.5,0.5) K19(8.5,0.5) K20(9.5,0.5) L1(-9.5,-0.5) L2(-8.5,-0.5) L3(-7.5,-0.5) L4(-6.5,-0.5) L5(-5.5,-0.5) L6(-4.5,-0.5) L7(-3.5,-0.5) L8(-2.5,-0.5) L9(-1.5,-0.5) L10(-0.5,-0.5) L11(0.5,-0.5) L12(1.5,-0.5) L13(2.5,-0.5) L14(3.5,-0.5) L15(4.5,-0.5) L16(5.5,-0.5) L17(6.5,-0.5) L18(7.5,-0.5) L19(8.5,-0.5) L20(9.5,-0.5) M1(-9.5,-1.5) M2(-8.5,-1.5) M3(-7.5,-1.5) M4(-6.5,-1.5) M5(-5.5,-1.5) M6(-4.5,-1.5) M7(-3.5,-1.5) M8(-2.5,-1.5) M9(-1.5,-1.5) M10(-0.5,-1.5) M11(0.5,-1.5) M12(1.5,-1.5) M13(2.5,-1.5) M14(3.5,-1.5) M15(4.5,-1.5) M16(5.5,-1.5) M17(6.5,-1.5) M18(7.5,-1.5) M19(8.5,-1.5) M20(9.5,-1.5) N1(-9.5,-2.5) N2(-8.5,-2.5) N3(-7.5,-2.5) N4(-6.5,-2.5) N5(-5.5,-2.5) N6(-4.5,-2.5) N7(-3.5,-2.5) N8(-2.5,-2.5) N9(-1.5,-2.5) N10(-0.5,-2.5) N11(0.5,-2.5) N12(1.5,-2.5) N13(2.5,-2.5) N14(3.5,-2.5) N15(4.5,-2.5) N16(5.5,-2.5) N17(6.5,-2.5) N18(7.5,-2.5) N19(8.5,-2.5) N20(9.5,-2.5) P1(-9.5,-3.5) P2(-8.5,-3.5) P3(-7.5,-3.5) P4(-6.5,-3.5) P5(-5.5,-3.5) P6(-4.5,-3.5) P7(-3.5,-3.5) P8(-2.5,-3.5) P9(-1.5,-3.5) P10(-0.5,-3.5) P11(0.5,-3.5) P12(1.5,-3.5) P13(2.5,-3.5) P14(3.5,-3.5) P15(4.5,-3.5) P16(5.5,-3.5) P17(6.5,-3.5) P18(7.5,-3.5) P19(8.5,-3.5) P20(9.5,-3.5) R1(-9.5,-4.5) R2(-8.5,-4.5) R3(-7.5,-4.5) R4(-6.5,-4.5) R5(-5.5,-4.5) R6(-4.5,-4.5) R7(-3.5,-4.5) R8(-2.5,-4.5) R9(-1.5,-4.5) R10(-0.5,-4.5) R11(0.5,-4.5) R12(1.5,-4.5) R13(2.5,-4.5) R14(3.5,-4.5) R15(4.5,-4.5) R16(5.5,-4.5) R17(6.5,-4.5) R18(7.5,-4.5) R19(8.5,-4.5) R20(9.5,-4.5) T1(-9.5,-5.5) T2(-8.5,-5.5) T3(-7.5,-5.5) T4(-6.5,-5.5) T5(-5.5,-5.5) T6(-4.5,-5.5) T7(-3.5,-5.5) T8(-2.5,-5.5) T9(-1.5,-5.5) T10(-0.5,-5.5) T11(0.5,-5.5) T12(1.5,-5.5) T13(2.5,-5.5) T14(3.5,-5.5) T15(4.5,-5.5) T16(5.5,-5.5) T17(6.5,-5.5) T18(7.5,-5.5) T19(8.5,-5.5) T20(9.5,-5.5) U1(-9.5,-6.5) U2(-8.5,-6.5) U3(-7.5,-6.5) U4(-6.5,-6.5) U5(-5.5,-6.5) U6(-4.5,-6.5) U7(-3.5,-6.5) U8(-2.5,-6.5) U9(-1.5,-6.5) U10(-0.5,-6.5) U11(0.5,-6.5) U12(1.5,-6.5) U13(2.5,-6.5) U14(3.5,-6.5) U15(4.5,-6.5) U16(5.5,-6.5) U17(6.5,-6.5) U18(7.5,-6.5) U19(8.5,-6.5) U20(9.5,-6.5) V1(-9.5,-7.5) V2(-8.5,-7.5) V3(-7.5,-7.5) V4(-6.5,-7.5) V5(-5.5,-7.5) V6(-4.5,-7.5) V7(-3.5,-7.5) V8(-2.5,-7.5) V9(-1.5,-7.5) V10(-0.5,-7.5) V11(0.5,-7.5) V12(1.5,-7.5) V13(2.5,-7.5) V14(3.5,-7.5) V15(4.5,-7.5) V16(5.5,-7.5) V17(6.5,-7.5) V18(7.5,-7.5) V19(8.5,-7.5) V20(9.5,-7.5) W1(-9.5,-8.5) W2(-8.5,-8.5) W3(-7.5,-8.5) W4(-6.5,-8.5) W5(-5.5,-8.5) W6(-4.5,-8.5) W7(-3.5,-8.5) W8(-2.5,-8.5) W9(-1.5,-8.5) W10(-0.5,-8.5) W11(0.5,-8.5) W12(1.5,-8.5) W13(2.5,-8.5) W14(3.5,-8.5) W15(4.5,-8.5) W16(5.5,-8.5) W17(6.5,-8.5) W18(7.5,-8.5) W19(8.5,-8.5) W20(9.5,-8.5) Y1(-9.5,-9.5) Y2(-8.5,-9.5) Y3(-7.5,-9.5) Y4(-6.5,-9.5) Y5(-5.5,-9.5) Y6(-4.5,-9.5) Y7(-3.5,-9.5) Y8(-2.5,-9.5) Y9(-1.5,-9.5) Y10(-0.5,-9.5) Y11(0.5,-9.5) Y12(1.5,-9.5) Y13(2.5,-9.5) Y14(3.5,-9.5) Y15(4.5,-9.5) Y16(5.5,-9.5) Y17(6.5,-9.5) Y18(7.5,-9.5) Y19(8.5,-9.5) Y20(9.5,-9.5)
Top Overlay:
  circle w0.25: c-11.155,9.5 r0.125
  lines w0.2: -10.5,-9.5 -9.5,-10.5 9.5,-10.5 10.5,-9.5 10.5,9.5 9.5,10.5 -10.5,10.5 -10.5,-9.5

## BGA21x21-B400/X.4 [mm] "BGA, Fine Pitch; 400 Balls; Body 21 x 21 mm; Pitch 1 mm"
height 1.4
pads (400):
  round 0.4 smd: A1(-9.5,9.5) A2(-8.5,9.5) A3(-7.5,9.5) A4(-6.5,9.5) A5(-5.5,9.5) A6(-4.5,9.5) A7(-3.5,9.5) A8(-2.5,9.5) A9(-1.5,9.5) A10(-0.5,9.5) A11(0.5,9.5) A12(1.5,9.5) A13(2.5,9.5) A14(3.5,9.5) A15(4.5,9.5) A16(5.5,9.5) A17(6.5,9.5) A18(7.5,9.5) A19(8.5,9.5) A20(9.5,9.5) B1(-9.5,8.5) B2(-8.5,8.5) B3(-7.5,8.5) B4(-6.5,8.5) B5(-5.5,8.5) B6(-4.5,8.5) B7(-3.5,8.5) B8(-2.5,8.5) B9(-1.5,8.5) B10(-0.5,8.5) B11(0.5,8.5) B12(1.5,8.5) B13(2.5,8.5) B14(3.5,8.5) B15(4.5,8.5) B16(5.5,8.5) B17(6.5,8.5) B18(7.5,8.5) B19(8.5,8.5) B20(9.5,8.5) C1(-9.5,7.5) C2(-8.5,7.5) C3(-7.5,7.5) C4(-6.5,7.5) C5(-5.5,7.5) C6(-4.5,7.5) C7(-3.5,7.5) C8(-2.5,7.5) C9(-1.5,7.5) C10(-0.5,7.5) C11(0.5,7.5) C12(1.5,7.5) C13(2.5,7.5) C14(3.5,7.5) C15(4.5,7.5) C16(5.5,7.5) C17(6.5,7.5) C18(7.5,7.5) C19(8.5,7.5) C20(9.5,7.5) D1(-9.5,6.5) D2(-8.5,6.5) D3(-7.5,6.5) D4(-6.5,6.5) D5(-5.5,6.5) D6(-4.5,6.5) D7(-3.5,6.5) D8(-2.5,6.5) D9(-1.5,6.5) D10(-0.5,6.5) D11(0.5,6.5) D12(1.5,6.5) D13(2.5,6.5) D14(3.5,6.5) D15(4.5,6.5) D16(5.5,6.5) D17(6.5,6.5) D18(7.5,6.5) D19(8.5,6.5) D20(9.5,6.5) E1(-9.5,5.5) E2(-8.5,5.5) E3(-7.5,5.5) E4(-6.5,5.5) E5(-5.5,5.5) E6(-4.5,5.5) E7(-3.5,5.5) E8(-2.5,5.5) E9(-1.5,5.5) E10(-0.5,5.5) E11(0.5,5.5) E12(1.5,5.5) E13(2.5,5.5) E14(3.5,5.5) E15(4.5,5.5) E16(5.5,5.5) E17(6.5,5.5) E18(7.5,5.5) E19(8.5,5.5) E20(9.5,5.5) F1(-9.5,4.5) F2(-8.5,4.5) F3(-7.5,4.5) F4(-6.5,4.5) F5(-5.5,4.5) F6(-4.5,4.5) F7(-3.5,4.5) F8(-2.5,4.5) F9(-1.5,4.5) F10(-0.5,4.5) F11(0.5,4.5) F12(1.5,4.5) F13(2.5,4.5) F14(3.5,4.5) F15(4.5,4.5) F16(5.5,4.5) F17(6.5,4.5) F18(7.5,4.5) F19(8.5,4.5) F20(9.5,4.5) G1(-9.5,3.5) G2(-8.5,3.5) G3(-7.5,3.5) G4(-6.5,3.5) G5(-5.5,3.5) G6(-4.5,3.5) G7(-3.5,3.5) G8(-2.5,3.5) G9(-1.5,3.5) G10(-0.5,3.5) G11(0.5,3.5) G12(1.5,3.5) G13(2.5,3.5) G14(3.5,3.5) G15(4.5,3.5) G16(5.5,3.5) G17(6.5,3.5) G18(7.5,3.5) G19(8.5,3.5) G20(9.5,3.5) H1(-9.5,2.5) H2(-8.5,2.5) H3(-7.5,2.5) H4(-6.5,2.5) H5(-5.5,2.5) H6(-4.5,2.5) H7(-3.5,2.5) H8(-2.5,2.5) H9(-1.5,2.5) H10(-0.5,2.5) H11(0.5,2.5) H12(1.5,2.5) H13(2.5,2.5) H14(3.5,2.5) H15(4.5,2.5) H16(5.5,2.5) H17(6.5,2.5) H18(7.5,2.5) H19(8.5,2.5) H20(9.5,2.5) J1(-9.5,1.5) J2(-8.5,1.5) J3(-7.5,1.5) J4(-6.5,1.5) J5(-5.5,1.5) J6(-4.5,1.5) J7(-3.5,1.5) J8(-2.5,1.5) J9(-1.5,1.5) J10(-0.5,1.5) J11(0.5,1.5) J12(1.5,1.5) J13(2.5,1.5) J14(3.5,1.5) J15(4.5,1.5) J16(5.5,1.5) J17(6.5,1.5) J18(7.5,1.5) J19(8.5,1.5) J20(9.5,1.5) K1(-9.5,0.5) K2(-8.5,0.5) K3(-7.5,0.5) K4(-6.5,0.5) K5(-5.5,0.5) K6(-4.5,0.5) K7(-3.5,0.5) K8(-2.5,0.5) K9(-1.5,0.5) K10(-0.5,0.5) K11(0.5,0.5) K12(1.5,0.5) K13(2.5,0.5) K14(3.5,0.5) K15(4.5,0.5) K16(5.5,0.5) K17(6.5,0.5) K18(7.5,0.5) K19(8.5,0.5) K20(9.5,0.5) L1(-9.5,-0.5) L2(-8.5,-0.5) L3(-7.5,-0.5) L4(-6.5,-0.5) L5(-5.5,-0.5) L6(-4.5,-0.5) L7(-3.5,-0.5) L8(-2.5,-0.5) L9(-1.5,-0.5) L10(-0.5,-0.5) L11(0.5,-0.5) L12(1.5,-0.5) L13(2.5,-0.5) L14(3.5,-0.5) L15(4.5,-0.5) L16(5.5,-0.5) L17(6.5,-0.5) L18(7.5,-0.5) L19(8.5,-0.5) L20(9.5,-0.5) M1(-9.5,-1.5) M2(-8.5,-1.5) M3(-7.5,-1.5) M4(-6.5,-1.5) M5(-5.5,-1.5) M6(-4.5,-1.5) M7(-3.5,-1.5) M8(-2.5,-1.5) M9(-1.5,-1.5) M10(-0.5,-1.5) M11(0.5,-1.5) M12(1.5,-1.5) M13(2.5,-1.5) M14(3.5,-1.5) M15(4.5,-1.5) M16(5.5,-1.5) M17(6.5,-1.5) M18(7.5,-1.5) M19(8.5,-1.5) M20(9.5,-1.5) N1(-9.5,-2.5) N2(-8.5,-2.5) N3(-7.5,-2.5) N4(-6.5,-2.5) N5(-5.5,-2.5) N6(-4.5,-2.5) N7(-3.5,-2.5) N8(-2.5,-2.5) N9(-1.5,-2.5) N10(-0.5,-2.5) N11(0.5,-2.5) N12(1.5,-2.5) N13(2.5,-2.5) N14(3.5,-2.5) N15(4.5,-2.5) N16(5.5,-2.5) N17(6.5,-2.5) N18(7.5,-2.5) N19(8.5,-2.5) N20(9.5,-2.5) P1(-9.5,-3.5) P2(-8.5,-3.5) P3(-7.5,-3.5) P4(-6.5,-3.5) P5(-5.5,-3.5) P6(-4.5,-3.5) P7(-3.5,-3.5) P8(-2.5,-3.5) P9(-1.5,-3.5) P10(-0.5,-3.5) P11(0.5,-3.5) P12(1.5,-3.5) P13(2.5,-3.5) P14(3.5,-3.5) P15(4.5,-3.5) P16(5.5,-3.5) P17(6.5,-3.5) P18(7.5,-3.5) P19(8.5,-3.5) P20(9.5,-3.5) R1(-9.5,-4.5) R2(-8.5,-4.5) R3(-7.5,-4.5) R4(-6.5,-4.5) R5(-5.5,-4.5) R6(-4.5,-4.5) R7(-3.5,-4.5) R8(-2.5,-4.5) R9(-1.5,-4.5) R10(-0.5,-4.5) R11(0.5,-4.5) R12(1.5,-4.5) R13(2.5,-4.5) R14(3.5,-4.5) R15(4.5,-4.5) R16(5.5,-4.5) R17(6.5,-4.5) R18(7.5,-4.5) R19(8.5,-4.5) R20(9.5,-4.5) T1(-9.5,-5.5) T2(-8.5,-5.5) T3(-7.5,-5.5) T4(-6.5,-5.5) T5(-5.5,-5.5) T6(-4.5,-5.5) T7(-3.5,-5.5) T8(-2.5,-5.5) T9(-1.5,-5.5) T10(-0.5,-5.5) T11(0.5,-5.5) T12(1.5,-5.5) T13(2.5,-5.5) T14(3.5,-5.5) T15(4.5,-5.5) T16(5.5,-5.5) T17(6.5,-5.5) T18(7.5,-5.5) T19(8.5,-5.5) T20(9.5,-5.5) U1(-9.5,-6.5) U2(-8.5,-6.5) U3(-7.5,-6.5) U4(-6.5,-6.5) U5(-5.5,-6.5) U6(-4.5,-6.5) U7(-3.5,-6.5) U8(-2.5,-6.5) U9(-1.5,-6.5) U10(-0.5,-6.5) U11(0.5,-6.5) U12(1.5,-6.5) U13(2.5,-6.5) U14(3.5,-6.5) U15(4.5,-6.5) U16(5.5,-6.5) U17(6.5,-6.5) U18(7.5,-6.5) U19(8.5,-6.5) U20(9.5,-6.5) V1(-9.5,-7.5) V2(-8.5,-7.5) V3(-7.5,-7.5) V4(-6.5,-7.5) V5(-5.5,-7.5) V6(-4.5,-7.5) V7(-3.5,-7.5) V8(-2.5,-7.5) V9(-1.5,-7.5) V10(-0.5,-7.5) V11(0.5,-7.5) V12(1.5,-7.5) V13(2.5,-7.5) V14(3.5,-7.5) V15(4.5,-7.5) V16(5.5,-7.5) V17(6.5,-7.5) V18(7.5,-7.5) V19(8.5,-7.5) V20(9.5,-7.5) W1(-9.5,-8.5) W2(-8.5,-8.5) W3(-7.5,-8.5) W4(-6.5,-8.5) W5(-5.5,-8.5) W6(-4.5,-8.5) W7(-3.5,-8.5) W8(-2.5,-8.5) W9(-1.5,-8.5) W10(-0.5,-8.5) W11(0.5,-8.5) W12(1.5,-8.5) W13(2.5,-8.5) W14(3.5,-8.5) W15(4.5,-8.5) W16(5.5,-8.5) W17(6.5,-8.5) W18(7.5,-8.5) W19(8.5,-8.5) W20(9.5,-8.5) Y1(-9.5,-9.5) Y2(-8.5,-9.5) Y3(-7.5,-9.5) Y4(-6.5,-9.5) Y5(-5.5,-9.5) Y6(-4.5,-9.5) Y7(-3.5,-9.5) Y8(-2.5,-9.5) Y9(-1.5,-9.5) Y10(-0.5,-9.5) Y11(0.5,-9.5) Y12(1.5,-9.5) Y13(2.5,-9.5) Y14(3.5,-9.5) Y15(4.5,-9.5) Y16(5.5,-9.5) Y17(6.5,-9.5) Y18(7.5,-9.5) Y19(8.5,-9.5) Y20(9.5,-9.5)
Top Overlay:
  circle w0.25: c-11.15,9.5 r0.125
  lines w0.2: -10.5,-9.5 -9.5,-10.5 9.5,-10.5 10.5,-9.5 10.5,9.5 9.5,10.5 -10.5,10.5 -10.5,-9.5

## BGA23x23-B324/P.1 [mm] "324-Ball Fine Pitch Ball Grid Array (FG324)"
height 2.5
pads (324):
  round 0.5 smd: A1(-10.5,10.5) A2(-9.5,10.5) A3(-8.5,10.5) A4(-7.5,10.5) A5(-6.5,10.5) A6(-5.5,10.5) A7(-4.5,10.5) A8(-3.5,10.5) A9(-2.5,10.5) A10(-1.5,10.5) A11(-0.5,10.5) A12(0.5,10.5) A13(1.5,10.5) A14(2.5,10.5) A15(3.5,10.5) A16(4.5,10.5) A17(5.5,10.5) A18(6.5,10.5) A19(7.5,10.5) A20(8.5,10.5) A21(9.5,10.5) A22(10.5,10.5) AA1(-10.5,-9.5) AA2(-9.5,-9.5) AA3(-8.5,-9.5) AA4(-7.5,-9.5) AA5(-6.5,-9.5) AA6(-5.5,-9.5) AA7(-4.5,-9.5) AA8(-3.5,-9.5) AA9(-2.5,-9.5) AA10(-1.5,-9.5) AA11(-0.5,-9.5) AA12(0.5,-9.5) AA13(1.5,-9.5) AA14(2.5,-9.5) AA15(3.5,-9.5) AA16(4.5,-9.5) AA17(5.5,-9.5) AA18(6.5,-9.5) AA19(7.5,-9.5) AA20(8.5,-9.5) AA21(9.5,-9.5) AA22(10.5,-9.5) AB1(-10.5,-10.5) AB2(-9.5,-10.5) AB3(-8.5,-10.5) AB4(-7.5,-10.5) AB5(-6.5,-10.5) AB6(-5.5,-10.5) AB7(-4.5,-10.5) AB8(-3.5,-10.5) AB9(-2.5,-10.5) AB10(-1.5,-10.5) AB11(-0.5,-10.5) AB12(0.5,-10.5) AB13(1.5,-10.5) AB14(2.5,-10.5) AB15(3.5,-10.5) AB16(4.5,-10.5) AB17(5.5,-10.5) AB18(6.5,-10.5) AB19(7.5,-10.5) AB20(8.5,-10.5) AB21(9.5,-10.5) AB22(10.5,-10.5) B1(-10.5,9.5) B2(-9.5,9.5) B3(-8.5,9.5) B4(-7.5,9.5) B5(-6.5,9.5) B6(-5.5,9.5) B7(-4.5,9.5) B8(-3.5,9.5) B9(-2.5,9.5) B10(-1.5,9.5) B11(-0.5,9.5) B12(0.5,9.5) B13(1.5,9.5) B14(2.5,9.5) B15(3.5,9.5) B16(4.5,9.5) B17(5.5,9.5) B18(6.5,9.5) B19(7.5,9.5) B20(8.5,9.5) B21(9.5,9.5) B22(10.5,9.5) C1(-10.5,8.5) C2(-9.5,8.5) C3(-8.5,8.5) C4(-7.5,8.5) C5(-6.5,8.5) C6(-5.5,8.5) C7(-4.5,8.5) C8(-3.5,8.5) C9(-2.5,8.5) C10(-1.5,8.5) C11(-0.5,8.5) C12(0.5,8.5) C13(1.5,8.5) C14(2.5,8.5) C15(3.5,8.5) C16(4.5,8.5) C17(5.5,8.5) C18(6.5,8.5) C19(7.5,8.5) C20(8.5,8.5) C21(9.5,8.5) C22(10.5,8.5) D1(-10.5,7.5) D2(-9.5,7.5) D3(-8.5,7.5) D4(-7.5,7.5) D5(-6.5,7.5) D6(-5.5,7.5) D7(-4.5,7.5) D8(-3.5,7.5) D9(-2.5,7.5) D10(-1.5,7.5) D11(-0.5,7.5) D12(0.5,7.5) D13(1.5,7.5) D14(2.5,7.5) D15(3.5,7.5) D16(4.5,7.5) D17(5.5,7.5) D18(6.5,7.5) D19(7.5,7.5) D20(8.5,7.5) D21(9.5,7.5) D22(10.5,7.5) E1(-10.5,6.5) E2(-9.5,6.5) E3(-8.5,6.5) E4(-7.5,6.5) E19(7.5,6.5) E20(8.5,6.5) E21(9.5,6.5) E22(10.5,6.5) F1(-10.5,5.5) F2(-9.5,5.5) F3(-8.5,5.5) F4(-7.5,5.5) F19(7.5,5.5) F20(8.5,5.5) F21(9.5,5.5) F22(10.5,5.5) G1(-10.5,4.5) G2(-9.5,4.5) G3(-8.5,4.5) G4(-7.5,4.5) G19(7.5,4.5) G20(8.5,4.5) G21(9.5,4.5) G22(10.5,4.5) H1(-10.5,3.5) H2(-9.5,3.5) H3(-8.5,3.5) H4(-7.5,3.5) H19(7.5,3.5) H20(8.5,3.5) H21(9.5,3.5) H22(10.5,3.5) J1(-10.5,2.5) J2(-9.5,2.5) J3(-8.5,2.5) J4(-7.5,2.5) J9(-2.5,2.5) J10(-1.5,2.5) J11(-0.5,2.5) J12(0.5,2.5) J13(1.5,2.5) J14(2.5,2.5) J19(7.5,2.5) J20(8.5,2.5) J21(9.5,2.5) J22(10.5,2.5) K1(-10.5,1.5) K2(-9.5,1.5) K3(-8.5,1.5) K4(-7.5,1.5) K9(-2.5,1.5) K10(-1.5,1.5) K11(-0.5,1.5) K12(0.5,1.5) K13(1.5,1.5) K14(2.5,1.5) K19(7.5,1.5) K20(8.5,1.5) K21(9.5,1.5) K22(10.5,1.5) L1(-10.5,0.5) L2(-9.5,0.5) L3(-8.5,0.5) L4(-7.5,0.5) L9(-2.5,0.5) L10(-1.5,0.5) L11(-0.5,0.5) L12(0.5,0.5) L13(1.5,0.5) L14(2.5,0.5) L19(7.5,0.5) L20(8.5,0.5) L21(9.5,0.5) L22(10.5,0.5) M1(-10.5,-0.5) M2(-9.5,-0.5) M3(-8.5,-0.5) M4(-7.5,-0.5) M9(-2.5,-0.5) M10(-1.5,-0.5) M11(-0.5,-0.5) M12(0.5,-0.5) M13(1.5,-0.5) M14(2.5,-0.5) M19(7.5,-0.5) M20(8.5,-0.5) M21(9.5,-0.5) M22(10.5,-0.5) N1(-10.5,-1.5) N2(-9.5,-1.5) N3(-8.5,-1.5) N4(-7.5,-1.5) N9(-2.5,-1.5) N10(-1.5,-1.5) N11(-0.5,-1.5) N12(0.5,-1.5) N13(1.5,-1.5) N14(2.5,-1.5) N19(7.5,-1.5) N20(8.5,-1.5) N21(9.5,-1.5) N22(10.5,-1.5) P1(-10.5,-2.5) P2(-9.5,-2.5) P3(-8.5,-2.5) P4(-7.5,-2.5) P9(-2.5,-2.5) P10(-1.5,-2.5) P11(-0.5,-2.5) P12(0.5,-2.5) P13(1.5,-2.5) P14(2.5,-2.5) P19(7.5,-2.5) P20(8.5,-2.5) P21(9.5,-2.5) P22(10.5,-2.5) R1(-10.5,-3.5) R2(-9.5,-3.5) R3(-8.5,-3.5) R4(-7.5,-3.5) R19(7.5,-3.5) R20(8.5,-3.5) R21(9.5,-3.5) R22(10.5,-3.5) T1(-10.5,-4.5) T2(-9.5,-4.5) T3(-8.5,-4.5) T4(-7.5,-4.5) T19(7.5,-4.5) T20(8.5,-4.5) T21(9.5,-4.5) T22(10.5,-4.5) U1(-10.5,-5.5) U2(-9.5,-5.5) U3(-8.5,-5.5) U4(-7.5,-5.5) U19(7.5,-5.5) U20(8.5,-5.5) U21(9.5,-5.5) U22(10.5,-5.5) V1(-10.5,-6.5) V2(-9.5,-6.5) V3(-8.5,-6.5) V4(-7.5,-6.5) V19(7.5,-6.5) V20(8.5,-6.5) V21(9.5,-6.5) V22(10.5,-6.5) W1(-10.5,-7.5) W2(-9.5,-7.5) W3(-8.5,-7.5) W4(-7.5,-7.5) W5(-6.5,-7.5) W6(-5.5,-7.5) W7(-4.5,-7.5) W8(-3.5,-7.5) W9(-2.5,-7.5) W10(-1.5,-7.5) W11(-0.5,-7.5) W12(0.5,-7.5) W13(1.5,-7.5) W14(2.5,-7.5) W15(3.5,-7.5) W16(4.5,-7.5) W17(5.5,-7.5) W18(6.5,-7.5) W19(7.5,-7.5) W20(8.5,-7.5) W21(9.5,-7.5) W22(10.5,-7.5) Y1(-10.5,-8.5) Y2(-9.5,-8.5) Y3(-8.5,-8.5) Y4(-7.5,-8.5) Y5(-6.5,-8.5) Y6(-5.5,-8.5) Y7(-4.5,-8.5) Y8(-3.5,-8.5) Y9(-2.5,-8.5) Y10(-1.5,-8.5) Y11(-0.5,-8.5) Y12(0.5,-8.5) Y13(1.5,-8.5) Y14(2.5,-8.5) Y15(3.5,-8.5) Y16(4.5,-8.5) Y17(5.5,-8.5) Y18(6.5,-8.5) Y19(7.5,-8.5) Y20(8.5,-8.5) Y21(9.5,-8.5) Y22(10.5,-8.5)
Top Overlay:
  circle w0.25: c-12.15,10.5 r0.125
  lines w0.2: 10.5,-11.5 -10.5,-11.5 -11.5,-10.5 -11.5,11.5 10.5,11.5 11.5,10.5 ; 10.5,-11.5 10.5,-11.5 ; 10.5,-11.5 11.5,-10.5 11.5,10.5 ; 11.5,10.5 11.5,10.5

## BGA23x23-B388 [mm] "BGA; 388 Balls; Body 23 x 23 mm; Pitch 1 mm"
height 2.6
pads (388):
  round 0.5 smd: A1(-10.5,10.5) A2(-9.5,10.5) A3(-8.5,10.5) A4(-7.5,10.5) A5(-6.5,10.5) A6(-5.5,10.5) A7(-4.5,10.5) A8(-3.5,10.5) A9(-2.5,10.5) A10(-1.5,10.5) A11(-0.5,10.5) A12(0.5,10.5) A13(1.5,10.5) A14(2.5,10.5) A15(3.5,10.5) A16(4.5,10.5) A17(5.5,10.5) A18(6.5,10.5) A19(7.5,10.5) A20(8.5,10.5) A21(9.5,10.5) A22(10.5,10.5) AA1(-10.5,-9.5) AA2(-9.5,-9.5) AA3(-8.5,-9.5) AA4(-7.5,-9.5) AA5(-6.5,-9.5) AA6(-5.5,-9.5) AA7(-4.5,-9.5) AA8(-3.5,-9.5) AA9(-2.5,-9.5) AA10(-1.5,-9.5) AA11(-0.5,-9.5) AA12(0.5,-9.5) AA13(1.5,-9.5) AA14(2.5,-9.5) AA15(3.5,-9.5) AA16(4.5,-9.5) AA17(5.5,-9.5) AA18(6.5,-9.5) AA19(7.5,-9.5) AA20(8.5,-9.5) AA21(9.5,-9.5) AA22(10.5,-9.5) AB1(-10.5,-10.5) AB2(-9.5,-10.5) AB3(-8.5,-10.5) AB4(-7.5,-10.5) AB5(-6.5,-10.5) AB6(-5.5,-10.5) AB7(-4.5,-10.5) AB8(-3.5,-10.5) AB9(-2.5,-10.5) AB10(-1.5,-10.5) AB11(-0.5,-10.5) AB12(0.5,-10.5) AB13(1.5,-10.5) AB14(2.5,-10.5) AB15(3.5,-10.5) AB16(4.5,-10.5) AB17(5.5,-10.5) AB18(6.5,-10.5) AB19(7.5,-10.5) AB20(8.5,-10.5) AB21(9.5,-10.5) AB22(10.5,-10.5) B1(-10.5,9.5) B2(-9.5,9.5) B3(-8.5,9.5) B4(-7.5,9.5) B5(-6.5,9.5) B6(-5.5,9.5) B7(-4.5,9.5) B8(-3.5,9.5) B9(-2.5,9.5) B10(-1.5,9.5) B11(-0.5,9.5) B12(0.5,9.5) B13(1.5,9.5) B14(2.5,9.5) B15(3.5,9.5) B16(4.5,9.5) B17(5.5,9.5) B18(6.5,9.5) B19(7.5,9.5) B20(8.5,9.5) B21(9.5,9.5) B22(10.5,9.5) C1(-10.5,8.5) C2(-9.5,8.5) C3(-8.5,8.5) C4(-7.5,8.5) C5(-6.5,8.5) C6(-5.5,8.5) C7(-4.5,8.5) C8(-3.5,8.5) C9(-2.5,8.5) C10(-1.5,8.5) C11(-0.5,8.5) C12(0.5,8.5) C13(1.5,8.5) C14(2.5,8.5) C15(3.5,8.5) C16(4.5,8.5) C17(5.5,8.5) C18(6.5,8.5) C19(7.5,8.5) C20(8.5,8.5) C21(9.5,8.5) C22(10.5,8.5) D1(-10.5,7.5) D2(-9.5,7.5) D3(-8.5,7.5) D4(-7.5,7.5) D5(-6.5,7.5) D6(-5.5,7.5) D7(-4.5,7.5) D8(-3.5,7.5) D9(-2.5,7.5) D10(-1.5,7.5) D11(-0.5,7.5) D12(0.5,7.5) D13(1.5,7.5) D14(2.5,7.5) D15(3.5,7.5) D16(4.5,7.5) D17(5.5,7.5) D18(6.5,7.5) D19(7.5,7.5) D20(8.5,7.5) D21(9.5,7.5) D22(10.5,7.5) E1(-10.5,6.5) E2(-9.5,6.5) E3(-8.5,6.5) E4(-7.5,6.5) E19(7.5,6.5) E20(8.5,6.5) E21(9.5,6.5) E22(10.5,6.5) F1(-10.5,5.5) F2(-9.5,5.5) F3(-8.5,5.5) F4(-7.5,5.5) F19(7.5,5.5) F20(8.5,5.5) F21(9.5,5.5) F22(10.5,5.5) G1(-10.5,4.5) G2(-9.5,4.5) G3(-8.5,4.5) G4(-7.5,4.5) G7(-4.5,4.5) G8(-3.5,4.5) G9(-2.5,4.5) G10(-1.5,4.5) G11(-0.5,4.5) G12(0.5,4.5) G13(1.5,4.5) G14(2.5,4.5) G15(3.5,4.5) G16(4.5,4.5) G19(7.5,4.5) G20(8.5,4.5) G21(9.5,4.5) G22(10.5,4.5) H1(-10.5,3.5) H2(-9.5,3.5) H3(-8.5,3.5) H4(-7.5,3.5) H7(-4.5,3.5) H8(-3.5,3.5) H9(-2.5,3.5) H10(-1.5,3.5) H11(-0.5,3.5) H12(0.5,3.5) H13(1.5,3.5) H14(2.5,3.5) H15(3.5,3.5) H16(4.5,3.5) H19(7.5,3.5) H20(8.5,3.5) H21(9.5,3.5) H22(10.5,3.5) J1(-10.5,2.5) J2(-9.5,2.5) J3(-8.5,2.5) J4(-7.5,2.5) J7(-4.5,2.5) J8(-3.5,2.5) J9(-2.5,2.5) J10(-1.5,2.5) J11(-0.5,2.5) J12(0.5,2.5) J13(1.5,2.5) J14(2.5,2.5) J15(3.5,2.5) J16(4.5,2.5) J19(7.5,2.5) J20(8.5,2.5) J21(9.5,2.5) J22(10.5,2.5) K1(-10.5,1.5) K2(-9.5,1.5) K3(-8.5,1.5) K4(-7.5,1.5) K7(-4.5,1.5) K8(-3.5,1.5) K9(-2.5,1.5) K10(-1.5,1.5) K11(-0.5,1.5) K12(0.5,1.5) K13(1.5,1.5) K14(2.5,1.5) K15(3.5,1.5) K16(4.5,1.5) K19(7.5,1.5) K20(8.5,1.5) K21(9.5,1.5) K22(10.5,1.5) L1(-10.5,0.5) L2(-9.5,0.5) L3(-8.5,0.5) L4(-7.5,0.5) L7(-4.5,0.5) L8(-3.5,0.5) L9(-2.5,0.5) L10(-1.5,0.5) L11(-0.5,0.5) L12(0.5,0.5) L13(1.5,0.5) L14(2.5,0.5) L15(3.5,0.5) L16(4.5,0.5) L19(7.5,0.5) L20(8.5,0.5) L21(9.5,0.5) L22(10.5,0.5) M1(-10.5,-0.5) M2(-9.5,-0.5) M3(-8.5,-0.5) M4(-7.5,-0.5) M7(-4.5,-0.5) M8(-3.5,-0.5) M9(-2.5,-0.5) M10(-1.5,-0.5) M11(-0.5,-0.5) M12(0.5,-0.5) M13(1.5,-0.5) M14(2.5,-0.5) M15(3.5,-0.5) M16(4.5,-0.5) M19(7.5,-0.5) M20(8.5,-0.5) M21(9.5,-0.5) M22(10.5,-0.5) N1(-10.5,-1.5) N2(-9.5,-1.5) N3(-8.5,-1.5) N4(-7.5,-1.5) N7(-4.5,-1.5) N8(-3.5,-1.5) N9(-2.5,-1.5) N10(-1.5,-1.5) N11(-0.5,-1.5) N12(0.5,-1.5) N13(1.5,-1.5) N14(2.5,-1.5) N15(3.5,-1.5) N16(4.5,-1.5) N19(7.5,-1.5) N20(8.5,-1.5) N21(9.5,-1.5) N22(10.5,-1.5) P1(-10.5,-2.5) P2(-9.5,-2.5) P3(-8.5,-2.5) P4(-7.5,-2.5) P7(-4.5,-2.5) P8(-3.5,-2.5) P9(-2.5,-2.5) P10(-1.5,-2.5) P11(-0.5,-2.5) P12(0.5,-2.5) P13(1.5,-2.5) P14(2.5,-2.5) P15(3.5,-2.5) P16(4.5,-2.5) P19(7.5,-2.5) P20(8.5,-2.5) P21(9.5,-2.5) P22(10.5,-2.5) R1(-10.5,-3.5) R2(-9.5,-3.5) R3(-8.5,-3.5) R4(-7.5,-3.5) R7(-4.5,-3.5) R8(-3.5,-3.5) R9(-2.5,-3.5) R10(-1.5,-3.5) R11(-0.5,-3.5) R12(0.5,-3.5) R13(1.5,-3.5) R14(2.5,-3.5) R15(3.5,-3.5) R16(4.5,-3.5) R19(7.5,-3.5) R20(8.5,-3.5) R21(9.5,-3.5) R22(10.5,-3.5) T1(-10.5,-4.5) T2(-9.5,-4.5) T3(-8.5,-4.5) T4(-7.5,-4.5) T7(-4.5,-4.5) T8(-3.5,-4.5) T9(-2.5,-4.5) T10(-1.5,-4.5) T11(-0.5,-4.5) T12(0.5,-4.5) T13(1.5,-4.5) T14(2.5,-4.5) T15(3.5,-4.5) T16(4.5,-4.5) T19(7.5,-4.5) T20(8.5,-4.5) T21(9.5,-4.5) T22(10.5,-4.5) U1(-10.5,-5.5) U2(-9.5,-5.5) U3(-8.5,-5.5) U4(-7.5,-5.5) U19(7.5,-5.5) U20(8.5,-5.5) U21(9.5,-5.5) U22(10.5,-5.5) V1(-10.5,-6.5) V2(-9.5,-6.5) V3(-8.5,-6.5) V4(-7.5,-6.5) V19(7.5,-6.5) V20(8.5,-6.5) V21(9.5,-6.5) V22(10.5,-6.5) W1(-10.5,-7.5) W2(-9.5,-7.5) W3(-8.5,-7.5) W4(-7.5,-7.5) W5(-6.5,-7.5) W6(-5.5,-7.5) W7(-4.5,-7.5) W8(-3.5,-7.5) W9(-2.5,-7.5) W10(-1.5,-7.5) W11(-0.5,-7.5) W12(0.5,-7.5) W13(1.5,-7.5) W14(2.5,-7.5) W15(3.5,-7.5) W16(4.5,-7.5) W17(5.5,-7.5) W18(6.5,-7.5) W19(7.5,-7.5) W20(8.5,-7.5) W21(9.5,-7.5) W22(10.5,-7.5) Y1(-10.5,-8.5) Y2(-9.5,-8.5) Y3(-8.5,-8.5) Y4(-7.5,-8.5) Y5(-6.5,-8.5) Y6(-5.5,-8.5) Y7(-4.5,-8.5) Y8(-3.5,-8.5) Y9(-2.5,-8.5) Y10(-1.5,-8.5) Y11(-0.5,-8.5) Y12(0.5,-8.5) Y13(1.5,-8.5) Y14(2.5,-8.5) Y15(3.5,-8.5) Y16(4.5,-8.5) Y17(5.5,-8.5) Y18(6.5,-8.5) Y19(7.5,-8.5) Y20(8.5,-8.5) Y21(9.5,-8.5) Y22(10.5,-8.5)
Top Overlay:
  circle w0.25: c-12.15,10.5 r0.125
  lines w0.2: -11.5,-10.419 -10.419,-11.5 10.419,-11.5 11.5,-10.419 11.5,10.419 10.419,11.5 -11.5,11.5 -11.5,-10.419

## BGA23x23-B441 [mm] "BGA; 441 Balls; Body 23 x 23 mm; Pitch 1 mm"
height 3.5
pads (441):
  round 0.5 smd: A1(-10,10) A2(-9,10) A3(-8,10) A4(-7,10) A5(-6,10) A6(-5,10) A7(-4,10) A8(-3,10) A9(-2,10) A10(-1,10) A11(0,10) A12(1,10) A13(2,10) A14(3,10) A15(4,10) A16(5,10) A17(6,10) A18(7,10) A19(8,10) A20(9,10) A21(10,10) AA1(-10,-10) AA2(-9,-10) AA3(-8,-10) AA4(-7,-10) AA5(-6,-10) AA6(-5,-10) AA7(-4,-10) AA8(-3,-10) AA9(-2,-10) AA10(-1,-10) AA11(0,-10) AA12(1,-10) AA13(2,-10) AA14(3,-10) AA15(4,-10) AA16(5,-10) AA17(6,-10) AA18(7,-10) AA19(8,-10) AA20(9,-10) AA21(10,-10) B1(-10,9) B2(-9,9) B3(-8,9) B4(-7,9) B5(-6,9) B6(-5,9) B7(-4,9) B8(-3,9) B9(-2,9) B10(-1,9) B11(0,9) B12(1,9) B13(2,9) B14(3,9) B15(4,9) B16(5,9) B17(6,9) B18(7,9) B19(8,9) B20(9,9) B21(10,9) C1(-10,8) C2(-9,8) C3(-8,8) C4(-7,8) C5(-6,8) C6(-5,8) C7(-4,8) C8(-3,8) C9(-2,8) C10(-1,8) C11(0,8) C12(1,8) C13(2,8) C14(3,8) C15(4,8) C16(5,8) C17(6,8) C18(7,8) C19(8,8) C20(9,8) C21(10,8) D1(-10,7) D2(-9,7) D3(-8,7) D4(-7,7) D5(-6,7) D6(-5,7) D7(-4,7) D8(-3,7) D9(-2,7) D10(-1,7) D11(0,7) D12(1,7) D13(2,7) D14(3,7) D15(4,7) D16(5,7) D17(6,7) D18(7,7) D19(8,7) D20(9,7) D21(10,7) E1(-10,6) E2(-9,6) E3(-8,6) E4(-7,6) E5(-6,6) E6(-5,6) E7(-4,6) E8(-3,6) E9(-2,6) E10(-1,6) E11(0,6) E12(1,6) E13(2,6) E14(3,6) E15(4,6) E16(5,6) E17(6,6) E18(7,6) E19(8,6) E20(9,6) E21(10,6) F1(-10,5) F2(-9,5) F3(-8,5) F4(-7,5) F5(-6,5) F6(-5,5) F7(-4,5) F8(-3,5) F9(-2,5) F10(-1,5) F11(0,5) F12(1,5) F13(2,5) F14(3,5) F15(4,5) F16(5,5) F17(6,5) F18(7,5) F19(8,5) F20(9,5) F21(10,5) G1(-10,4) G2(-9,4) G3(-8,4) G4(-7,4) G5(-6,4) G6(-5,4) G7(-4,4) G8(-3,4) G9(-2,4) G10(-1,4) G11(0,4) G12(1,4) G13(2,4) G14(3,4) G15(4,4) G16(5,4) G17(6,4) G18(7,4) G19(8,4) G20(9,4) G21(10,4) H1(-10,3) H2(-9,3) H3(-8,3) H4(-7,3) H5(-6,3) H6(-5,3) H7(-4,3) H8(-3,3) H9(-2,3) H10(-1,3) H11(0,3) H12(1,3) H13(2,3) H14(3,3) H15(4,3) H16(5,3) H17(6,3) H18(7,3) H19(8,3) H20(9,3) H21(10,3) J1(-10,2) J2(-9,2) J3(-8,2) J4(-7,2) J5(-6,2) J6(-5,2) J7(-4,2) J8(-3,2) J9(-2,2) J10(-1,2) J11(0,2) J12(1,2) J13(2,2) J14(3,2) J15(4,2) J16(5,2) J17(6,2) J18(7,2) J19(8,2) J20(9,2) J21(10,2) K1(-10,1) K2(-9,1) K3(-8,1) K4(-7,1) K5(-6,1) K6(-5,1) K7(-4,1) K8(-3,1) K9(-2,1) K10(-1,1) K11(0,1) K12(1,1) K13(2,1) K14(3,1) K15(4,1) K16(5,1) K17(6,1) K18(7,1) K19(8,1) K20(9,1) K21(10,1) L1(-10,0) L2(-9,0) L3(-8,0) L4(-7,0) L5(-6,0) L6(-5,0) L7(-4,0) L8(-3,0) L9(-2,0) L10(-1,0) L11(0,0) L12(1,0) L13(2,0) L14(3,0) L15(4,0) L16(5,0) L17(6,0) L18(7,0) L19(8,0) L20(9,0) L21(10,0) M1(-10,-1) M2(-9,-1) M3(-8,-1) M4(-7,-1) M5(-6,-1) M6(-5,-1) M7(-4,-1) M8(-3,-1) M9(-2,-1) M10(-1,-1) M11(0,-1) M12(1,-1) M13(2,-1) M14(3,-1) M15(4,-1) M16(5,-1) M17(6,-1) M18(7,-1) M19(8,-1) M20(9,-1) M21(10,-1) N1(-10,-2) N2(-9,-2) N3(-8,-2) N4(-7,-2) N5(-6,-2) N6(-5,-2) N7(-4,-2) N8(-3,-2) N9(-2,-2) N10(-1,-2) N11(0,-2) N12(1,-2) N13(2,-2) N14(3,-2) N15(4,-2) N16(5,-2) N17(6,-2) N18(7,-2) N19(8,-2) N20(9,-2) N21(10,-2) P1(-10,-3) P2(-9,-3) P3(-8,-3) P4(-7,-3) P5(-6,-3) P6(-5,-3) P7(-4,-3) P8(-3,-3) P9(-2,-3) P10(-1,-3) P11(0,-3) P12(1,-3) P13(2,-3) P14(3,-3) P15(4,-3) P16(5,-3) P17(6,-3) P18(7,-3) P19(8,-3) P20(9,-3) P21(10,-3) R1(-10,-4) R2(-9,-4) R3(-8,-4) R4(-7,-4) R5(-6,-4) R6(-5,-4) R7(-4,-4) R8(-3,-4) R9(-2,-4) R10(-1,-4) R11(0,-4) R12(1,-4) R13(2,-4) R14(3,-4) R15(4,-4) R16(5,-4) R17(6,-4) R18(7,-4) R19(8,-4) R20(9,-4) R21(10,-4) T1(-10,-5) T2(-9,-5) T3(-8,-5) T4(-7,-5) T5(-6,-5) T6(-5,-5) T7(-4,-5) T8(-3,-5) T9(-2,-5) T10(-1,-5) T11(0,-5) T12(1,-5) T13(2,-5) T14(3,-5) T15(4,-5) T16(5,-5) T17(6,-5) T18(7,-5) T19(8,-5) T20(9,-5) T21(10,-5) U1(-10,-6) U2(-9,-6) U3(-8,-6) U4(-7,-6) U5(-6,-6) U6(-5,-6) U7(-4,-6) U8(-3,-6) U9(-2,-6) U10(-1,-6) U11(0,-6) U12(1,-6) U13(2,-6) U14(3,-6) U15(4,-6) U16(5,-6) U17(6,-6) U18(7,-6) U19(8,-6) U20(9,-6) U21(10,-6) V1(-10,-7) V2(-9,-7) V3(-8,-7) V4(-7,-7) V5(-6,-7) V6(-5,-7) V7(-4,-7) V8(-3,-7) V9(-2,-7) V10(-1,-7) V11(0,-7) V12(1,-7) V13(2,-7) V14(3,-7) V15(4,-7) V16(5,-7) V17(6,-7) V18(7,-7) V19(8,-7) V20(9,-7) V21(10,-7) W1(-10,-8) W2(-9,-8) W3(-8,-8) W4(-7,-8) W5(-6,-8) W6(-5,-8) W7(-4,-8) W8(-3,-8) W9(-2,-8) W10(-1,-8) W11(0,-8) W12(1,-8) W13(2,-8) W14(3,-8) W15(4,-8) W16(5,-8) W17(6,-8) W18(7,-8) W19(8,-8) W20(9,-8) W21(10,-8) Y1(-10,-9) Y2(-9,-9) Y3(-8,-9) Y4(-7,-9) Y5(-6,-9) Y6(-5,-9) Y7(-4,-9) Y8(-3,-9) Y9(-2,-9) Y10(-1,-9) Y11(0,-9) Y12(1,-9) Y13(2,-9) Y14(3,-9) Y15(4,-9) Y16(5,-9) Y17(6,-9) Y18(7,-9) Y19(8,-9) Y20(9,-9) Y21(10,-9)
Top Overlay:
  circle w0.25: c-12.155,10 r0.125
  lines w0.2: -11.5,-10.5 -11.5,11.5 10.5,11.5 11.5,10.5 11.5,-10.5 10.5,-11.5 -10.5,-11.5 -11.5,-10.5